# EAGLE library part AA_590_596 (library AA_590_596)
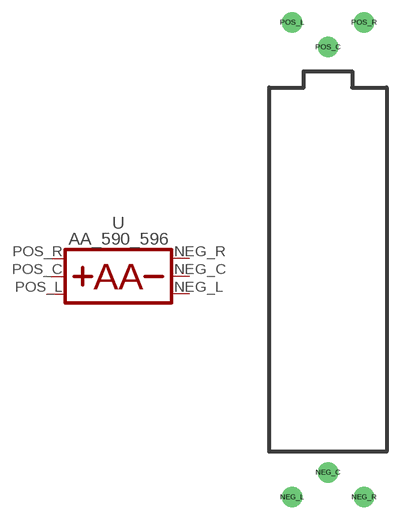
[diagram p0: symbol with the pads of AA_590_596; footprint AA_590_596]

Designator prefix -

## AA_590_596 (DESCRIPTION: KEYSTONE - 590 & 596; HEIGHT: 12.56mm; MANUFACTURE_NAME: Keystone Electronics)  [AA_590_596]
NEG_C  NEG_C  pwr
NEG_L  NEG_L  pwr
NEG_R  NEG_R  pwr
POS_C  POS_C  pwr
POS_L  POS_L  pwr
POS_R  POS_R  pwr

## Footprint AA_590_596 (pad centres in mm)
drill 1.4 pad 2.54: NEG_C 0,-52.58; NEG_L -4.445,-55.63; NEG_R 4.445,-55.63; POS_C 0,0; POS_L -4.445,3.05; POS_R 4.445,3.05